# Altium footprint library MaWei.PcbLib: 84 footprints (part 1 of 6)
Each footprint in its own frame and in the unit in brackets; x right, y up, seen from the top. Pads: shape width x height; smd on the part's side, far side on the other; paste and mask are expansions set on the pad; w line width, h text height; cw(c..) or ccw(c..) is an arc to the next point about the centre after c.
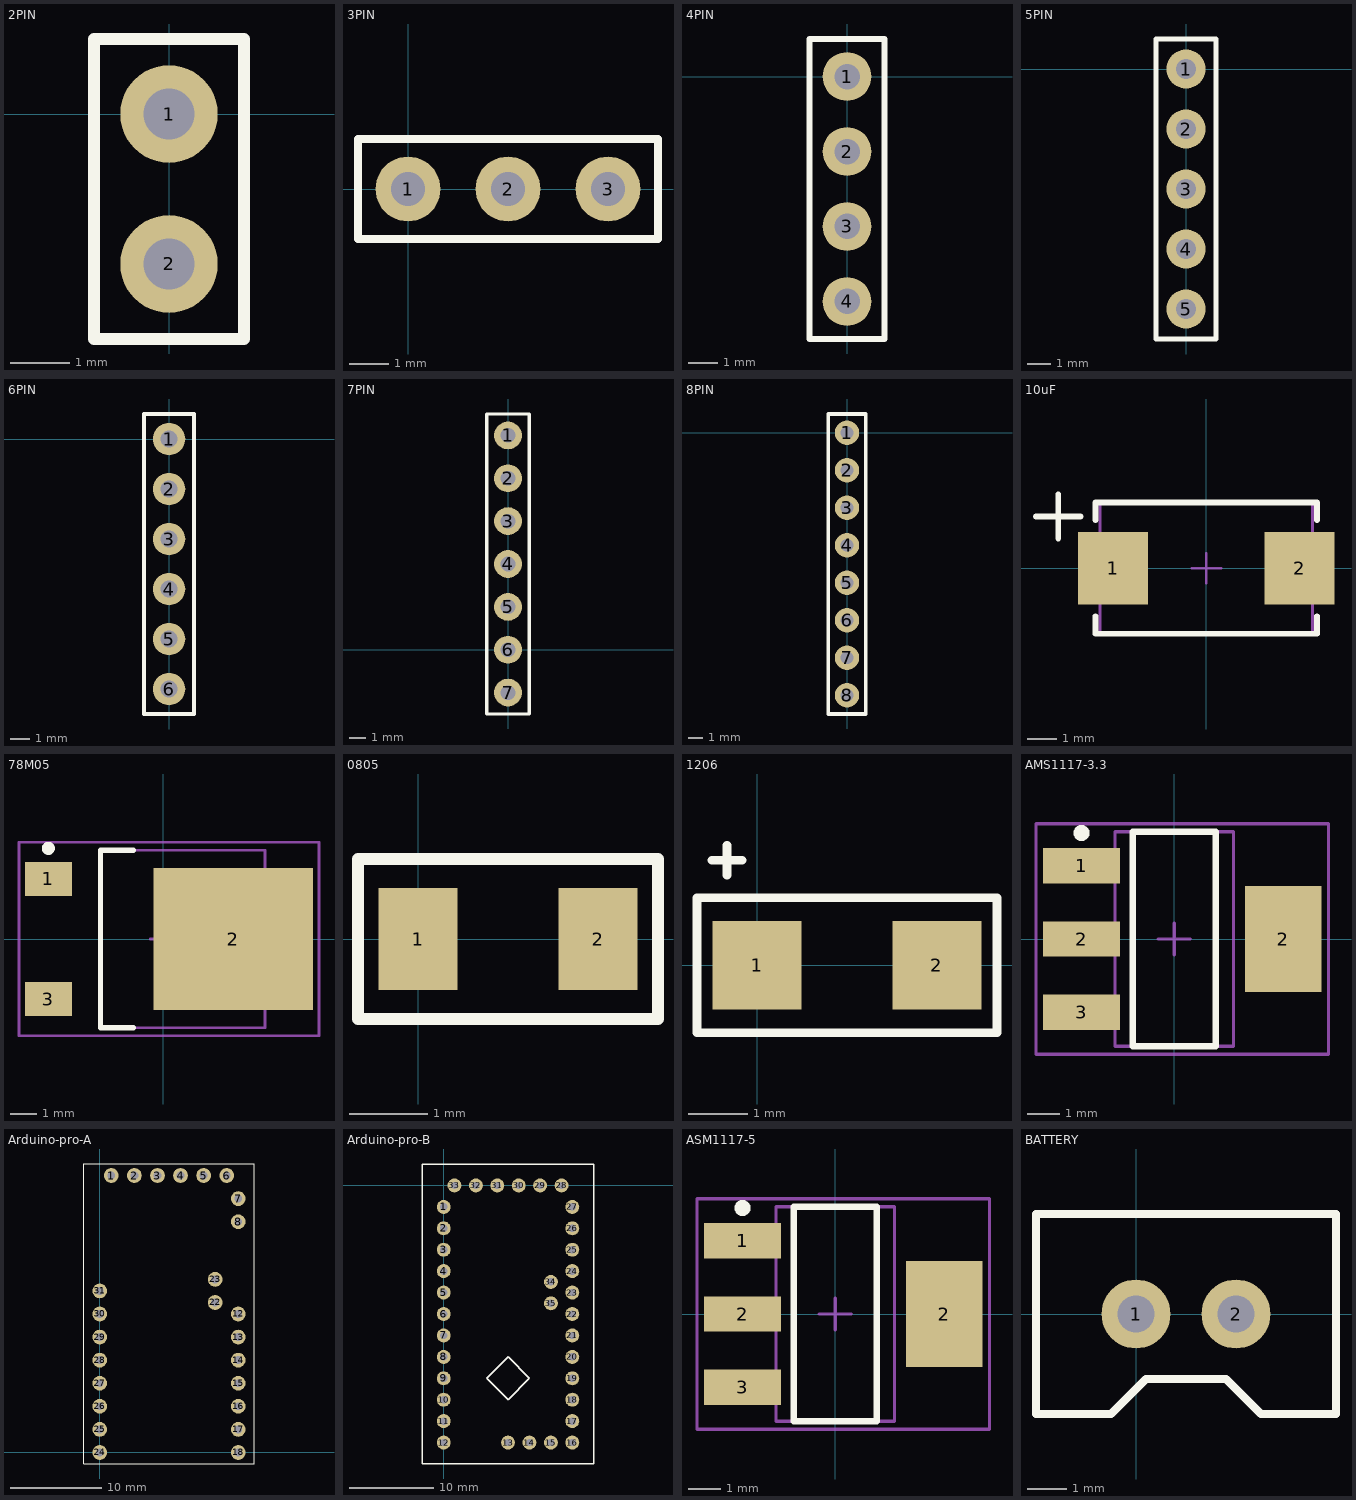
[diagram p0: the footprints below, top view; thin cyan lines are the x and y axes]

## 2PIN [mil]
pads (2):
  round 65 hole 34: 1(0,0) 2(0,-100)
Top Overlay:
  lines w8: -50,-150 -50,50 50,50 50,-150 -50,-150

## 3PIN [mil]
pads (3):
  round 65 hole 34: 1(0,0) 2(100,0) 3(200,0)
Top Overlay:
  lines w8: -50,-50 250,-50 250,50 -50,50 -50,-50

## 4PIN [mil]
pads (4):
  round 65 hole 34: 1(0,0) 2(0,-100) 3(0,-200) 4(0,-300)
Top Overlay:
  lines w8: -50,-350 -50,50 50,50 50,-350 -50,-350

## 5PIN [mil]
pads (5):
  round 65 hole 34: 1(0,0) 2(0,-100) 3(0,-200) 4(0,-300) 5(0,-400)
Top Overlay:
  lines w8: -50,-450 50,-450 50,50 -50,50 -50,-450

## 6PIN [mil]
pads (6):
  round 65 hole 34: 1(0,0) 2(0,-100) 3(0,-200) 4(0,-300) 5(0,-400) 6(0,-500)
Top Overlay:
  lines w8: -50,-550 50,-550 50,50 -50,50 -50,-550

## 7PIN [mil]
pads (7):
  round 65 hole 34: 1(0,500) 2(0,400) 3(0,300) 4(0,200) 5(0,100) 6(0,0) 7(0,-100)
Top Overlay:
  lines w8: -50,-150 50,-150 50,550 -50,550 -50,-150

## 8PIN [mil]
height 196.85
pads (8):
  round 65 hole 34: 1(0,0) 2(0,-100) 3(0,-200) 4(0,-300) 5(0,-400) 6(0,-500) 7(0,-600) 8(0,-700)
Top Overlay:
  lines w10: -50,-750 -50,50 50,50 50,-750 -50,-750

## 10uF [mm]
pads (2):
  rect 2.4x2.5 smd: 1(-3.2,0) 2(3.2,0)
Top Overlay:
  lines w0.2: -5.842,1.778 -4.318,1.778 ; -5.08,1.016 -5.08,2.54 ; -3.8,-1.65 -3.8,-2.25 3.8,-2.25 3.8,-1.65 ; -3.8,1.65 -3.8,2.25 3.8,2.25 3.8,1.65
Mechanical 15:
  lines w0.1: -0.5,0 0.5,0 ; 0,-0.5 0,0.5 ; -3.65,-2.25 3.65,-2.25 3.65,2.25 -3.65,2.25 -3.65,-2.25
3D body: height 3.5, standoff 0, extent -3.65,-2.25 3.65,2.25

## 78M05 [mm] "D-PAK, 3-Pads, Body 6.3x6.8mm (max), IPC Medium Density"
height 2.4
pads (3):
  rect 1.8x1.3 smd: 1(-4.4,2.3) 3(-4.4,-2.3)
  rect 6.1x5.45 smd: 2(2.681,0)
Top Overlay:
  circle w0.25: c-4.4,3.475 r0.125
  lines w0.2: -1.15,-3.4 -2.4,-3.4 -2.4,3.4 -1.15,3.4
Mechanical 13:
  lines w0.1: -2.4,-3.4 3.9,-3.4 3.9,3.4 -2.4,3.4 -2.4,-3.4
Mechanical 15:
  lines w0.1: -0.5,0 0.5,0 ; 0,-0.5 0,0.5 ; -5.525,-3.7 5.969,-3.7 5.969,3.7 -5.525,3.7 -5.525,-3.7
3D body: height 2.4, standoff 0.6, extent -2.4,-3.4 3.9,3.4

## 0805 [mm]
pads (2):
  rect 1x1.3 smd: 1(0,0) 2(2.286,0)
Top Overlay:
  lines w0.15: -0.762,-1.016 3.048,-1.016 3.048,1.016 -0.762,1.016 -0.762,-1.016

## 1206 [mm] "Molded Capacitor, 2-Leads, Body 3.30x1.30mm, IPC Medium Density"
height 1.6
pads (2):
  rect 1.5x1.5 smd: 1(0,0) 2(3.048,0)
Top Overlay:
  lines w0.15: -0.762,1.778 -0.254,1.778 ; -0.508,1.524 -0.508,2.032 ; -1.016,-1.143 -1.016,1.143 4.064,1.143 4.064,-1.143 -1.016,-1.143

## AMS1117-3.3 [mm] "SOT223, 4-Leads, Body 6.7x7.3mm (max), Pitch 2.29mm, IPC Medium Density"
height 1.8
pads (4):
  rect 2.4x1.1 smd: 1(-2.9,2.29) 2(-2.9,0) 3(-2.9,-2.29)
  rect 2.4x3.3 smd: 2(3.408,0)
Top Overlay:
  circle w0.25: c-2.9,3.315 r0.125
  lines w0.2: -1.3,-3.355 -1.3,3.355 1.3,3.355 1.3,-3.355 -1.3,-3.355
Mechanical 13:
  lines w0.1: -1.855,-3.355 -1.855,3.355 1.855,3.355 1.855,-3.355 -1.855,-3.355
Mechanical 15:
  lines w0.1: -0.5,0 0.5,0 ; 0,-0.5 0,0.5 ; -4.325,-3.605 -4.325,3.605 4.826,3.605 4.826,-3.605 -4.325,-3.605
3D body: height 1.8, standoff 0.02, extent -1.855,-3.355 1.855,3.355

## Arduino-pro-A [mil]
pads (25):
  round 64 hole 34: 1(50,1200) 2(150,1200) 3(250,1200) 4(350,1200) 5(450,1200) 6(550,1200) 7(600,1100) 8(600,1000) 12(600,600) 13(600,500) 14(600,400) 15(600,300) 16(600,200) 17(600,100) 18(600,0) 22(500,650) 23(500,750) 24(0,0) 25(0,100) 26(0,200) 27(0,300) 28(0,400) 29(0,500) 30(0,600) 31(0,700)
Top Overlay:
  lines w5: -70,-50 670,-50 670,1250 -70,1250 -70,-50

## Arduino-pro-B [mil]
pads (35):
  round 65 hole 34: 1(0,-100) 2(0,-200) 3(0,-300) 4(0,-400) 5(0,-500) 6(0,-600) 7(0,-700) 8(0,-800) 9(0,-900) 10(0,-1000) 11(0,-1100) 12(0,-1200) 13(300,-1200) 14(400,-1200) 15(500,-1200) 16(600,-1200) 17(600,-1100) 18(600,-1000) 19(600,-900) 20(600,-800) 21(600,-700) 22(600,-600) 23(600,-500) 24(600,-400) 25(600,-300) 26(600,-200) 27(600,-100) 28(550,0) 29(450,0) 30(350,0) 31(250,0) 32(150,0) 33(50,0) 34(500,-450) 35(500,-550)
Top Overlay:
  lines w5.91: -100,-1300 700,-1300 700,100 -100,100 -100,-1300 ; 200,-900 300,-1000 400,-900 300,-800 200,-900

## ASM1117-5 [mm]
pads (4):
  rect 2.4x1.1 smd: 1(-2.9,2.29) 2(-2.9,0) 3(-2.9,-2.29)
  rect 2.4x3.3 smd: 2(3.408,0)
Top Overlay:
  circle w0.25: c-2.9,3.315 r0.125
  lines w0.2: -1.3,-3.355 1.3,-3.355 1.3,3.355 -1.3,3.355 -1.3,-3.355
Mechanical 13:
  lines w0.1: -1.855,-3.355 1.855,-3.355 1.855,3.355 -1.855,3.355 -1.855,-3.355
Mechanical 15:
  lines w0.1: -0.5,0 0.5,0 ; 0,-0.5 0,0.5 ; -4.325,-3.605 4.826,-3.605 4.826,3.605 -4.325,3.605 -4.325,-3.605
3D body: height 1.8, standoff 0.02, extent -1.855,-3.355 1.855,3.355

## BATTERY [mm]
pads (2):
  round 1.75 hole 0.95: 1(0,0) 2(2.54,0)
Top Overlay:
  lines w0.2: -2.54,-2.54 -0.635,-2.54 0.254,-1.651 2.286,-1.651 3.175,-2.54 5.08,-2.54 5.08,2.54 3.175,2.54 -0.635,2.54 -2.54,2.54 -2.54,-2.54